# EAGLE library part RC1604A (library wg_library)
RAYSTAR RC1604A-LLH-JWV Source: https://www.tme.eu/Document/c9dec2dcce74c41454aa078925a9be3e/RC1604A-LLH-JWV.pdf
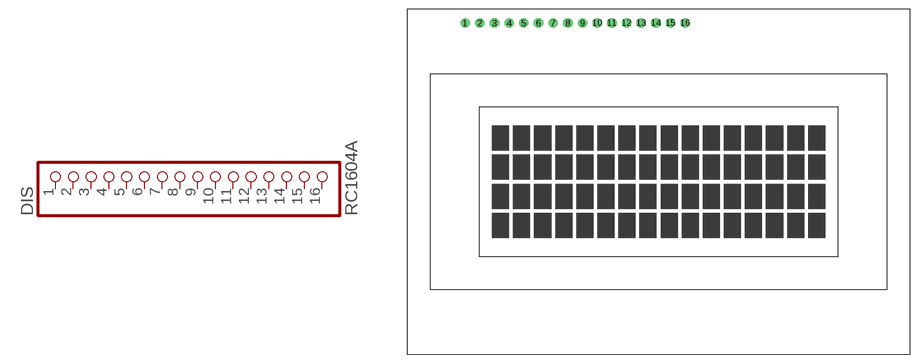
[diagram p15: symbol with the pads of RC1604A; footprint RC1604A]

Designator prefix DIS

## RC1604A  [RC1604A]
1  1  pas
2  2  pas
3  3  pas
4  4  pas
5  5  pas
6  6  pas
7  7  pas
8  8  pas
9  9  pas
10  10  pas
11  11  pas
12  12  pas
13  13  pas
14  14  pas
15  15  pas
16  16  pas

## Footprint RC1604A (pad centres in mm)
drill 1 pad 1.676 round: 1 -33.5,27.5; 2 -30.96,27.5; 3 -28.42,27.5; 4 -25.88,27.5; 5 -23.34,27.5; 6 -20.8,27.5; 7 -18.26,27.5; 8 -15.72,27.5; 9 -13.18,27.5; 10 -10.64,27.5; 11 -8.1,27.5; 12 -5.56,27.5; 13 -3.02,27.5; 14 -0.48,27.5; 15 2.06,27.5; 16 4.6,27.5